# EAGLE library part EL1602B (library LCD display EL1602B)
EL1602B, LCD display 16x2 characters without background light
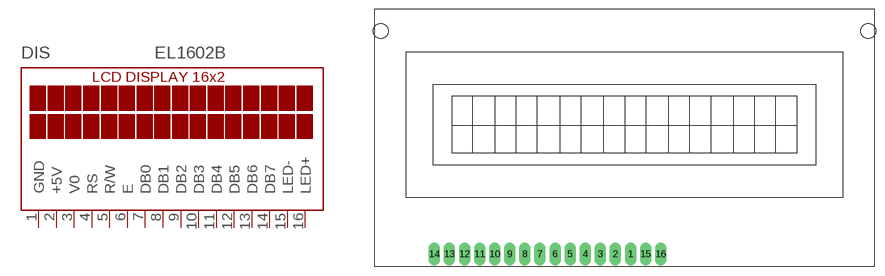
[diagram p0: symbol with the pads of EL1602B; footprint EL1602B]

Designator prefix DIS

## EL1602B (OC_FARNELL: unknown; OC_NEWARK: unknown)  [EL1602B]
1  GND  pwr
2  +5V  pwr
3  V0  in
4  RS  in
5  R/W  in
6  E  in
7  DB0  in
8  DB1  in
9  DB2  in
10  DB3  in
11  DB4  in
12  DB5  in
13  DB6  in
14  DB7  in
15  LED-
16  LED+

## Footprint EL1602B (pad centres in mm)
EL1602B, LCD display 16x2 characters without background light
drill 1 pad 1.93 long: 1 1.02,-19.5; 2 -1.52,-19.5; 3 -4.06,-19.5; 4 -6.6,-19.5; 5 -9.14,-19.5; 6 -11.68,-19.5; 7 -14.22,-19.5; 8 -16.76,-19.5; 9 -19.3,-19.5; 10 -21.84,-19.5; 11 -24.38,-19.5; 12 -26.92,-19.5; 13 -29.46,-19.5; 14 -32,-19.5; 15 3.56,-19.5; 16 6.1,-19.5
hole 2.5 at -41,18
hole 2.5 at 41,18